# Altium footprint library My_Footprint_Lib.PcbLib: 54 footprints (part 3 of 4)
Each footprint in its own frame and in the unit in brackets; x right, y up, seen from the top. Pads: shape width x height; smd on the part's side, far side on the other; paste and mask are expansions set on the pad; w line width, h text height; cw(c..) or ccw(c..) is an arc to the next point about the centre after c.
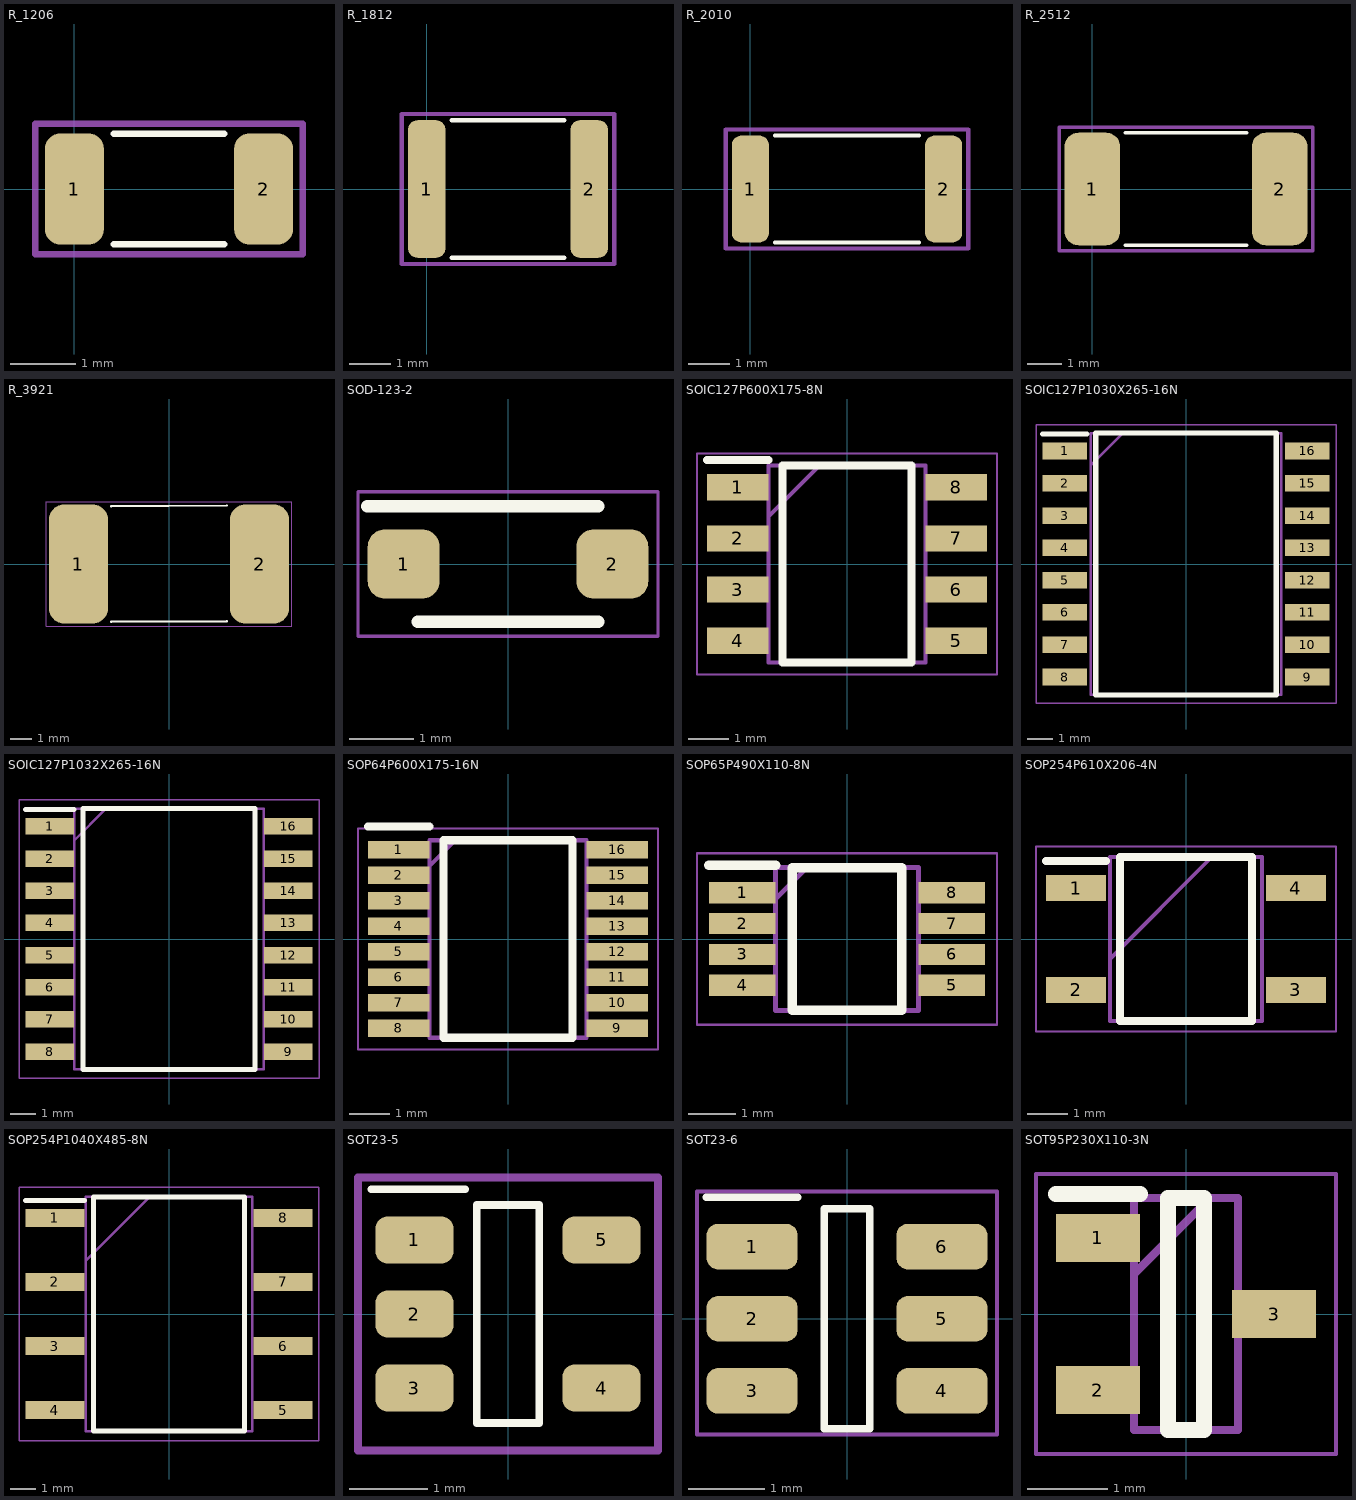
[diagram p2: the footprints below, top view; thin cyan lines are the x and y axes]

## R_1206 [mm]
pads (2):
  rrect50% 0.9x1.7 smd: 1(0,0) 2(2.9,0)
Top Overlay:
  lines w0.1: 0.6,-0.85 2.3,-0.85 ; 0.6,0.85 2.3,0.85
Mechanical 15:
  lines w0.1: -0.6,-1 3.5,-1 3.5,1 -0.6,1 -0.6,-1
3D body "RES_1206.stp": height 0.65, standoff 0, extent -0.1,-0.8 3,0.8

## R_1812 [mm]
pads (2):
  rrect50% 0.9x3.3 smd: 1(0,0) 2(3.9,0)
Top Overlay:
  lines w0.1: 0.6,-1.65 3.3,-1.65 ; 0.6,1.65 3.3,1.65
Mechanical 15:
  lines w0.1: -0.6,-1.8 4.5,-1.8 4.5,1.8 -0.6,1.8 -0.6,-1.8
3D body "RES_1812.stp": height 0.6, standoff 0, extent -0.3,-1.6 4.2,1.6

## R_2010 [mm]
pads (2):
  rrect50% 0.9x2.6 smd: 1(0,0) 2(4.7,0)
Top Overlay:
  lines w0.1: 0.6,-1.3 4.1,-1.3 ; 0.6,1.3 4.1,1.3
Mechanical 15:
  lines w0.1: -0.6,-1.45 -0.6,1.45 5.3,1.45 5.3,-1.45 -0.6,-1.45
3D body "RES_2010.stp": height 0.7, standoff 0, extent -0.15,-1.25 4.85,1.25

## R_2512 [mm]
pads (2):
  rrect50% 1.6x3.25 smd: 1(0,0) 2(5.4,0)
Top Overlay:
  lines w0.1: 0.95,-1.625 4.45,-1.625 ; 0.95,1.625 4.45,1.625
Mechanical 15:
  lines w0.1: -0.95,-1.775 -0.95,1.775 6.35,1.775 6.35,-1.775 -0.95,-1.775
3D body "RES_2512.stp": height 0.7, standoff 0, extent -0.45,-1.575 5.85,1.575

## R_3921 [mm]
pads (2):
  rrect50% 2.7x5.45 smd: 1(-4.15,0) 2(4.15,0)
Top Overlay:
  lines w0.1: -2.65,-2.65 2.65,-2.625 ; -2.65,2.65 2.65,2.675
Mechanical 15:
  lines w0.05: -5.625,-2.85 -5.625,2.85 5.625,2.85 5.625,-2.85 -5.625,-2.85
3D body "WSLP3921L1000FEA.stp": height 1.19, standoff 0, extent -5,-2.6 5,2.6

## SOD-123-2 [mm]
pads (2):
  rrect50% 1.12x1.08 smd: 1(-1.625,0) 2(1.625,0)
Top Overlay:
  lines w0.2: -2.185,0.9 1.4,0.9 ; -1.4,-0.9 1.4,-0.9
Mechanical 15:
  lines w0.05: -2.335,-1.125 -2.335,1.125 2.335,1.125 2.335,-1.125 -2.335,-1.125
3D body "CMMSH1-60G_TR_PBFREE.stp": height 1.08, standoff 0, extent -1.875,-0.9 1.875,0.9

## SOIC127P600X175-8N [mm]
pads (8):
  rect 1.525x0.65 smd: 1(-2.712,1.905) 2(-2.712,0.635) 3(-2.712,-0.635) 4(-2.712,-1.905) 5(2.712,-1.905) 6(2.712,-0.635) 7(2.712,0.635) 8(2.712,1.905)
Top Overlay:
  lines w0.2: -3.475,2.58 -1.95,2.58 ; -1.6,-2.45 1.6,-2.45 1.6,2.45 -1.6,2.45 -1.6,-2.45
Mechanical 13:
  lines w0.1: -1.95,1.18 -0.68,2.45 ; -1.95,-2.45 1.95,-2.45 1.95,2.45 -1.95,2.45 -1.95,-2.45
Mechanical 15:
  lines w0.05: -3.725,-2.75 3.725,-2.75 3.725,2.75 -3.725,2.75 -3.725,-2.75
3D body "M24C32-RMN6TP.stp": height 1.75, standoff 0, extent -3,-2.45 3,2.45

## SOIC127P1030X265-16N [mm]
pads (16):
  rect 1.75x0.65 smd: 1(-4.775,4.445) 2(-4.775,3.175) 3(-4.775,1.905) 4(-4.775,0.635) 5(-4.775,-0.635) 6(-4.775,-1.905) 7(-4.775,-3.175) 8(-4.775,-4.445) 9(4.775,-4.445) 10(4.775,-3.175) 11(4.775,-1.905) 12(4.775,-0.635) 13(4.775,0.635) 14(4.775,1.905) 15(4.775,3.175) 16(4.775,4.445)
Top Overlay:
  lines w0.2: -5.65,5.12 -3.9,5.12 ; -3.55,-5.15 3.55,-5.15 3.55,5.15 -3.55,5.15 -3.55,-5.15
Mechanical 13:
  lines w0.1: -3.75,3.88 -2.48,5.15 ; -3.75,-5.15 3.75,-5.15 3.75,5.15 -3.75,5.15 -3.75,-5.15
Mechanical 15:
  lines w0.05: -5.9,-5.475 5.9,-5.475 5.9,5.475 -5.9,5.475 -5.9,-5.475
3D body "TCA0372BDWR2G.stp": height 2.65, standoff 0, extent -5.15,-5.15 5.15,5.15

## SOIC127P1032X265-16N [mm]
pads (16):
  rect 1.925x0.65 smd: 1(-4.712,4.445) 2(-4.712,3.175) 3(-4.712,1.905) 4(-4.712,0.635) 5(-4.712,-0.635) 6(-4.712,-1.905) 7(-4.712,-3.175) 8(-4.712,-4.445) 9(4.712,-4.445) 10(4.712,-3.175) 11(4.712,-1.905) 12(4.712,-0.635) 13(4.712,0.635) 14(4.712,1.905) 15(4.712,3.175) 16(4.712,4.445)
Top Overlay:
  lines w0.2: -5.675,5.12 -3.75,5.12 ; -3.4,-5.15 -3.4,5.15 3.4,5.15 3.4,-5.15 -3.4,-5.15
Mechanical 13:
  lines w0.1: -3.75,3.88 -2.48,5.15 ; -3.75,-5.15 -3.75,5.15 3.75,5.15 3.75,-5.15 -3.75,-5.15
Mechanical 15:
  lines w0.05: -5.925,-5.5 -5.925,5.5 5.925,5.5 5.925,-5.5 -5.925,-5.5
3D body "IR2110STRPBF.stp": height 2.65, standoff 0, extent -5.162,-5.15 5.162,5.15

## SOP64P600X175-16N [mm]
pads (16):
  rect 1.528x0.435 smd: 1(-2.711,2.222) 2(-2.711,1.588) 3(-2.711,0.952) 4(-2.711,0.318) 5(-2.711,-0.318) 6(-2.711,-0.952) 7(-2.711,-1.588) 8(-2.711,-2.222) 9(2.711,-2.222) 10(2.711,-1.588) 11(2.711,-0.952) 12(2.711,-0.318) 13(2.711,0.318) 14(2.711,0.952) 15(2.711,1.588) 16(2.711,2.222)
Top Overlay:
  lines w0.2: -3.475,2.79 -1.948,2.79 ; -1.598,-2.452 -1.598,2.452 1.598,2.452 1.598,-2.452 -1.598,-2.452
Mechanical 13:
  lines w0.1: -1.948,1.818 -1.312,2.452 ; -1.948,-2.452 -1.948,2.452 1.948,2.452 1.948,-2.452 -1.948,-2.452
Mechanical 15:
  lines w0.05: -3.725,-2.75 -3.725,2.75 3.725,2.75 3.725,-2.75 -3.725,-2.75
3D body "ISO7760FDBQR.stp": height 1.62, standoff 0, extent -3.011,-2.451 3.011,2.451

## SOP65P490X110-8N [mm]
pads (8):
  rect 1.4x0.45 smd: 1(-2.2,0.975) 2(-2.2,0.325) 3(-2.2,-0.325) 4(-2.2,-0.975) 5(2.2,-0.975) 6(2.2,-0.325) 7(2.2,0.325) 8(2.2,0.975)
Top Overlay:
  lines w0.2: -2.9,1.55 -1.5,1.55 ; -1.15,-1.5 -1.15,1.5 1.15,1.5 1.15,-1.5 -1.15,-1.5
Mechanical 13:
  lines w0.1: -1.5,0.85 -0.85,1.5 ; -1.5,-1.5 -1.5,1.5 1.5,1.5 1.5,-1.5 -1.5,-1.5
Mechanical 15:
  lines w0.05: -3.15,-1.8 -3.15,1.8 3.15,1.8 3.15,-1.8 -3.15,-1.8
3D body "MC33202DMR2G.stp": height 1.1, standoff 0, extent -2.45,-1.5 2.45,1.5

## SOP254P610X206-4N [mm]
pads (4):
  rect 1.5x0.65 smd: 1(-2.75,1.27) 2(-2.75,-1.27) 3(2.75,-1.27) 4(2.75,1.27)
Top Overlay:
  lines w0.2: -3.5,1.945 -2,1.945 ; -1.65,-2.044 1.65,-2.044 1.65,2.044 -1.65,2.044 -1.65,-2.044
Mechanical 13:
  lines w0.1: -1.905,-0.496 0.635,2.044 ; -1.905,-2.044 1.905,-2.044 1.905,2.044 -1.905,2.044 -1.905,-2.044
Mechanical 15:
  lines w0.05: -3.75,-2.307 3.75,-2.307 3.75,2.307 -3.75,2.307 -3.75,-2.307
3D body "CPC-1017N.stp": height 2.05, standoff 0, extent -3.048,-2.044 3.048,2.044

## SOP254P1040X485-8N [mm]
pads (8):
  rect 2.35x0.7 smd: 1(-4.525,3.81) 2(-4.525,1.27) 3(-4.525,-1.27) 4(-4.525,-3.81) 5(4.525,-3.81) 6(4.525,-1.27) 7(4.525,1.27) 8(4.525,3.81)
Top Overlay:
  lines w0.2: -5.7,4.51 -3.35,4.51 ; -3,-4.642 3,-4.642 3,4.642 -3,4.642 -3,-4.642
Mechanical 13:
  lines w0.1: -3.31,2.102 -0.77,4.642 ; -3.31,-4.642 3.31,-4.642 3.31,4.642 -3.31,4.642 -3.31,-4.642
Mechanical 15:
  lines w0.05: -5.95,-5.025 5.95,-5.025 5.95,5.025 -5.95,5.025 -5.95,-5.025
3D body "ISO1050DUBR.stp": height 4.85, standoff 0, extent -5.2,-4.643 5.2,4.643

## SOT23-5 [mm] "SOT23, 5-Leads"
height 1.1
pads (5):
  rrect50% 1x0.6 smd: 1(-1.2,0.95) 2(-1.2,0) 3(-1.2,-0.95) 4(1.2,-0.95) 5(1.2,0.95)
Top Overlay:
  lines w0.1: -1.75,1.6 -0.55,1.6 ; -0.4,-1.4 -0.4,1.4 0.4,1.4 0.4,-1.4 -0.4,-1.4
Mechanical 15:
  lines w0.1: -1.925,-1.75 -1.925,1.75 1.925,1.75 1.925,-1.75 -1.925,-1.75
3D body "SOT95P245X110-5N.step": height 1.1, standoff 0, extent -1.3,-1.5 1.3,1.5

## SOT23-6 [mm]
pads (6):
  rrect50% 1.2x0.6 smd: 1(-1.25,0.95) 2(-1.25,0) 3(-1.25,-0.95) 4(1.25,-0.95) 5(1.25,0) 6(1.25,0.95)
Top Overlay:
  lines w0.1: -1.85,1.6 -0.65,1.6 ; -0.3,-1.45 -0.3,1.45 0.3,1.45 0.3,-1.45 -0.3,-1.45
Mechanical 15:
  lines w0.05: -1.975,-1.525 -1.975,1.675 1.975,1.675 1.975,-1.525 -1.975,-1.525
3D body "INA181A1IDBVR.stp": height 1.2, standoff 0, extent -1.4,-1.45 1.4,1.45

## SOT95P230X110-3N [mm]
pads (3):
  rect 1.05x0.6 smd: 1(-1.1,0.95) 2(-1.1,-0.95) 3(1.1,0)
Top Overlay:
  lines w0.2: -1.625,1.5 -0.575,1.5 ; -0.225,-1.45 0.225,-1.45 0.225,1.45 -0.225,1.45 -0.225,-1.45
Mechanical 13:
  lines w0.1: -0.65,0.5 0.3,1.45 ; -0.65,-1.45 0.65,-1.45 0.65,1.45 -0.65,1.45 -0.65,-1.45
Mechanical 15:
  lines w0.05: -1.875,-1.75 1.875,-1.75 1.875,1.75 -1.875,1.75 -1.875,-1.75
3D body "BC857B,235.stp": height 0.95, standoff 0, extent -1.201,-1.448 1.199,1.452